# Altium footprint library LPC55S69_MINI [B].PcbLib: 22 footprints (part 1 of 2)
Each footprint in its own frame and in the unit in brackets; x right, y up, seen from the top. Pads: shape width x height; smd on the part's side, far side on the other; paste and mask are expansions set on the pad; w line width, h text height; cw(c..) or ccw(c..) is an arc to the next point about the centre after c.
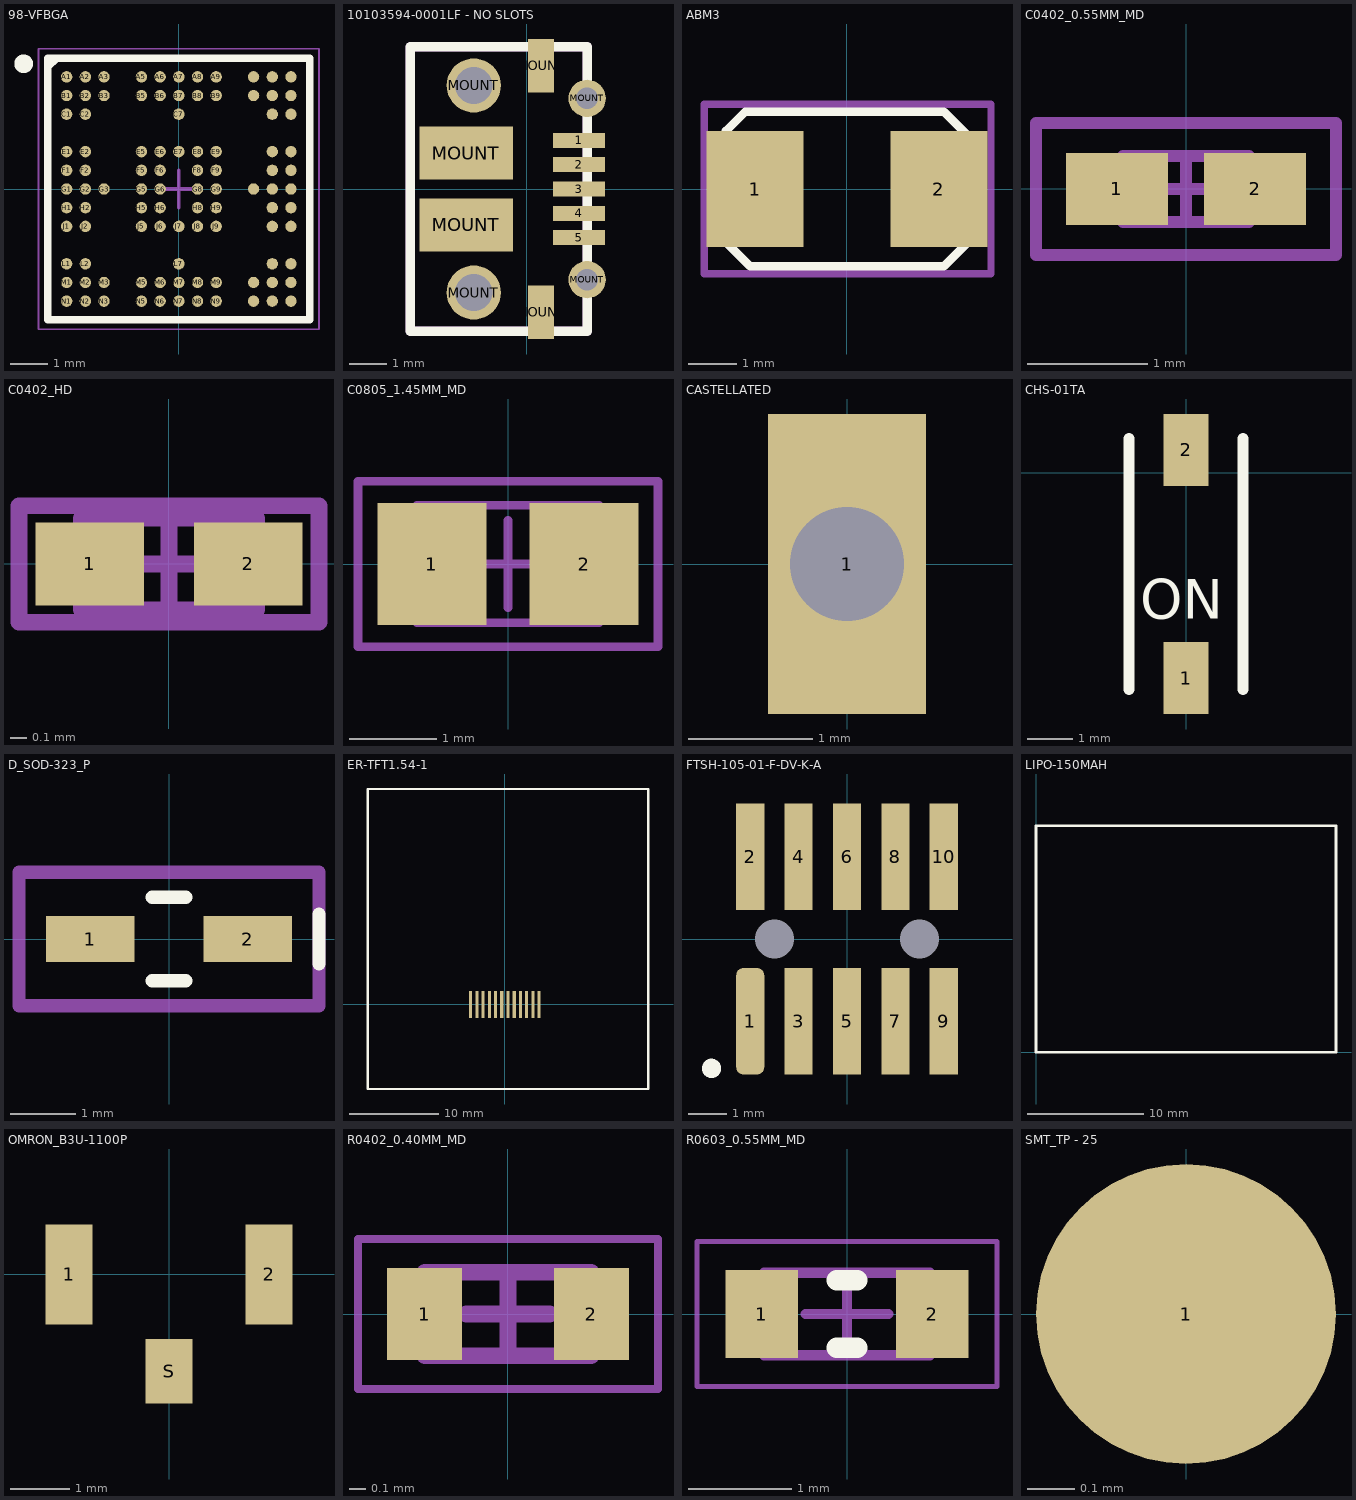
[diagram p0: the footprints below, top view; thin cyan lines are the x and y axes]

## 98-VFBGA [mil] "BGA, 98-Leads, Body 7.00x7.00mmx0.97mm, Pitch 0.50mm"
height 38.19
pads (98):
  round 12 smd paste+0 mask+1: A1(-118.11,118.11) A2(-98.43,118.11) A3(-78.74,118.11) A5(-39.37,118.11) A6(-19.68,118.11) A7(0,118.11) A8(19.69,118.11) A9(39.37,118.11) A11(78.74,118.11) A12(98.43,118.11) A13(118.11,118.11) B1(-118.11,98.43) B2(-98.43,98.43) B3(-78.74,98.43) B5(-39.37,98.43) B6(-19.68,98.43) B7(0,98.43) B8(19.69,98.43) B9(39.37,98.43) B11(78.74,98.43) B12(98.43,98.43) B13(118.11,98.43) C1(-118.11,78.74) C2(-98.43,78.74) C7(0,78.74) C12(98.43,78.74) C13(118.11,78.74) E1(-118.11,39.37) E2(-98.43,39.37) E5(-39.37,39.37) E6(-19.68,39.37) E7(0,39.37) E8(19.69,39.37) E9(39.37,39.37) E12(98.43,39.37) E13(118.11,39.37) F1(-118.11,19.68) F2(-98.43,19.68) F5(-39.37,19.68) F6(-19.68,19.68) F8(19.69,19.68) F9(39.37,19.68) F12(98.43,19.68) F13(118.11,19.68) G1(-118.11,0) G2(-98.43,0) G3(-78.74,0) G5(-39.37,0) G6(-19.68,0) G8(19.69,0) G9(39.37,0) G11(78.74,0) G12(98.43,0) G13(118.11,0) H1(-118.11,-19.69) H2(-98.43,-19.69) H5(-39.37,-19.69) H6(-19.68,-19.69) H8(19.69,-19.69) H9(39.37,-19.69) H12(98.43,-19.69) H13(118.11,-19.69) J1(-118.11,-39.37) J2(-98.43,-39.37) J5(-39.37,-39.37) J6(-19.68,-39.37) J7(0,-39.37) J8(19.69,-39.37) J9(39.37,-39.37) J12(98.43,-39.37) J13(118.11,-39.37) L1(-118.11,-78.74) L2(-98.43,-78.74) L7(0,-78.74) L12(98.43,-78.74) L13(118.11,-78.74) M1(-118.11,-98.43) M2(-98.43,-98.43) M3(-78.74,-98.43) M5(-39.37,-98.43) M6(-19.68,-98.43) M7(0,-98.43) M8(19.69,-98.43) M9(39.37,-98.43) M11(78.74,-98.43) M12(98.43,-98.43) M13(118.11,-98.43) N1(-118.11,-118.11) N2(-98.43,-118.11) N3(-78.74,-118.11) N5(-39.37,-118.11) N6(-19.68,-118.11) N7(0,-118.11) N8(19.69,-118.11) N9(39.37,-118.11) N11(78.74,-118.11) N12(98.43,-118.11) N13(118.11,-118.11)
Top Overlay:
  circle w9.84: c-163.39,131.89 r4.92
  region: -128.77,137.8 -137.8,128.77 -137.8,137.8
  lines w7.87: -137.8,128.77 -128.77,137.8 ; -137.8,-137.8 -137.8,137.8 137.8,137.8 137.8,-137.8 -137.8,-137.8
Top Courtyard:
  lines w1.97: -147.64,-147.64 -147.64,147.64 147.64,147.64 147.64,-147.64 -147.64,-147.64
  lines w3.94: -19.68,0 19.69,0 ; 0,-19.69 0,19.68
Top Assembly:
  lines w3.94: -137.8,-137.8 -137.8,137.8 137.8,137.8 137.8,-137.8 -137.8,-137.8
3D body "BGA81C50P13X13_700X700X97.step": height 38.19, standoff 0, extent -137.8,-137.8 137.8,137.8

## 10103594-0001LF - NO SLOTS [mm] "USB uB"
pads (13):
  rect 1.4x0.4 smd: 1(1.4,1.3) 2(1.4,0.65) 3(1.4,0) 4(1.4,-0.65) 5(1.4,-1.3)
  rect 2.5x1.425 smd: MOUNT(-1.615,-0.962) MOUNT(-1.615,0.962)
  round 1.45 hole 1: MOUNT(-1.415,-2.77) MOUNT(-1.415,2.77)
  rect 0.7x1.425 smd: MOUNT(0.385,-3.3) MOUNT(0.385,3.3)
  round 1 hole 0.58: MOUNT(1.615,-2.425) MOUNT(1.615,2.425)
Top Overlay:
  lines w0.254: -3.115,-3.8 1.615,-3.8 1.615,3.8 -3.115,3.8 -3.115,-3.8
Mechanical 15:
  lines w0.254: -3.115,-3.8 -3.115,3.8 1.615,3.8 1.615,-3.8 -3.115,-3.8
3D body "10103594.stp": height 2.9, standoff -0.7, extent -4.227,-4.011 1.806,4.029

## ABM3 [mm] "Abracon Crystal 5x3.2mm"
height 1.3
pads (2):
  rect 2x2.4 smd: 1(-1.9,0) 2(1.9,0)
Top Overlay:
  lines w0.178: -2.5,-1.1 -2.5,0.3 -2.5,1.2 -2.1,1.6 -2,1.6 2,1.6 2.5,1.1 2.5,-1.1 2,-1.6 -2,-1.6 -2.5,-1.1
Mechanical 13:
  lines w0.152: -2.95,-1.75 2.975,-1.75 2.975,1.75 -2.95,1.75 -2.95,-1.75
  text ".Designator" at -2.8,-1.6 h3
3D body: height 0.6, standoff 0, extent -2.5,-1.6 2.5,1.6
3D body: height 1.3, standoff 0.6, extent -2.1,-1.3 2.1,1.3

## C0402_0.55MM_MD [mm] "Capacitor - 0402 - Medium Density"
height 0.55
pads (2):
  rect 0.85x0.6 smd: 1(-0.575,0) 2(0.575,0)
Mechanical 13:
  lines w0.1: -0.525,-0.275 -0.525,0.275 0.525,0.275 0.525,-0.275 -0.525,-0.275
Mechanical 15:
  lines w0.1: -0.275,0 0.275,0 ; 0,-0.275 0,0.275 ; -1.25,-0.55 -1.25,0.55 1.25,0.55 1.25,-0.55 -1.25,-0.55
3D body "0402_0.55mm.STEP": height 0.55, standoff 0, extent -0.5,-0.25 0.5,0.25

## C0402_HD [mm] "Capacitor 0402 - High Density"
height 0.3
pads (2):
  rect 0.65x0.5 smd: 1(-0.475,0) 2(0.475,0)
Mechanical 13:
  lines w0.1: -0.525,-0.275 0.525,-0.275 0.525,0.275 -0.525,0.275 -0.525,-0.275
Mechanical 15:
  lines w0.1: -0.275,0 0.275,0 ; 0,-0.275 0,0.275 ; -0.9,-0.35 0.9,-0.35 0.9,0.35 -0.9,0.35 -0.9,-0.35
3D body "CAPC1005X55N EIA 0402.step": height 0.55, standoff 0, extent -0.5,-0.25 0.5,0.25

## C0805_1.45MM_MD [mm] "Capacitor - 0805 - Medium Density"
height 1.45
pads (2):
  rect 1.25x1.4 smd: 1(-0.875,0) 2(0.875,0)
Mechanical 13:
  lines w0.1: -1.05,-0.675 1.05,-0.675 1.05,0.675 -1.05,0.675 -1.05,-0.675
Mechanical 15:
  lines w0.1: -0.5,0 0.5,0 ; 0,-0.5 0,0.5 ; -1.725,-0.95 1.725,-0.95 1.725,0.95 -1.725,0.95 -1.725,-0.95
3D body "0805_1.45mm.STEP": height 1.45, standoff 0, extent -1,-0.625 1,0.625

## CASTELLATED [mil]
pads (1):
  rect 50x95 hole 36: 1(0,0)

## CHS-01TA [mm]
height 1.6
pads (2):
  rect 1x1.6 smd: 1(0,-4.572) 2(0,0.508)
Top Overlay:
  lines w0.254: -1.27,-4.826 -1.27,0.762 ; 1.27,-4.826 1.27,0.762
  text "ON" at -1.016,-3.538 h1.5
3D body "CHS-01TA.stp": height 2.53, standoff 0.01, extent -1.25,-4.832 1.25,0.768

## D_SOD-323_P [mm] "SOD-123 Diode - Polarized"
height 1.35
pads (2):
  rect 1.35x0.7 smd: 1(-1.2,0) 2(1.2,0)
Top Overlay:
  lines w0.203: -0.254,-0.635 0.254,-0.635 ; -0.254,0.635 0.254,0.635 ; 2.286,-0.381 2.286,0.381
Mechanical 15:
  lines w0.203: -2.286,-1.016 -0.084,-1.016 2.286,-1.016 2.286,1.016 -2.286,1.016 -2.286,-1.016
3D body "SOD-323.step": height 1.1, standoff 0, extent -1.3,-0.675 1.3,0.675

## ER-TFT1.54-1 [mm]
pads (12):
  rect 0.35x3 smd: 1(3.85,0) 2(3.15,0) 3(2.45,0) 4(1.75,0) 5(1.05,0) 6(0.35,0) 7(-0.35,0) 8(-1.05,0) 9(-1.75,0) 10(-2.45,0) 11(-3.15,0) 12(-3.85,0)
Top Overlay:
  lines w0.254: -15.41,-9.5 16.11,-9.5 16.11,24.22 -15.41,24.22 -15.41,-9.5
3D body: height 2.1, standoff 0.15, extent -15.537,-9.627 16.237,24.347

## FTSH-105-01-F-DV-K-A [mil] "Samtec FTSH-105-01-F-DV-K-A SMT Connector"
height 235.04
pads (12):
  rrect50% 29x110 smd: 1(-100,-85)
  rect 29x110 smd: 2(-100,85) 3(-50,-85) 4(-50,85) 5(0,-85) 6(0,85) 7(50,-85) 8(50,85) 9(100,-85) 10(100,85)
  round 5 hole 40 unplated mask+20: A(-75,0) A(75,0)
Top Overlay:
  circle w10: c-140,-133.64 r5
3D body "FTSH-105-01-X-DV-K-A.step": height 241, standoff -34, extent -125,-115.01 125,114.99

## LIPO-150MAH [mm]
height 1.6
Top Overlay:
  lines w0.254: 0,0 25.908,0 25.908,19.558 0,19.558 0,0
3D body: height 3.56, standoff 0, extent 0.001,0.001 25.907,19.557

## OMRON_B3U-1100P [mm] "Omron Ultra-small tactile switch B3U 3.0 x 2.5 x 1.2mm"
height 1.2
pads (3):
  rect 0.8x1.7 smd: 1(-1.7,0) 2(1.7,0)
  rect 0.8x1.1 smd: S(0,-1.65)
3D body "B3U_1100P.step": height 1.61, standoff 0.01, extent -2,-1.9 2,1.25

## R0402_0.40MM_MD [mm] "Resistor 0402 Medium Density"
height 0.4
pads (2):
  rect 0.45x0.55 smd: 1(-0.5,0) 2(0.5,0)
Mechanical 13:
  lines w0.1: -0.5,-0.25 -0.5,0.25 0.5,0.25 0.5,-0.25 -0.5,-0.25
Mechanical 15:
  lines w0.05: -0.9,-0.45 -0.9,0.45 0.9,0.45 0.9,-0.45 -0.9,-0.45
  lines w0.1: -0.25,0 0.25,0 ; 0,-0.25 0,0.25
3D body "RESC1005X04N.step": height 0.4, standoff 0, extent -0.5,-0.25 0.5,0.25

## R0603_0.55MM_MD [mm] "Resistor 0603 Medium Density"
height 0.55
pads (2):
  rect 0.7x0.85 smd: 1(-0.825,0) 2(0.825,0)
Top Overlay:
  lines w0.2: -0.1,-0.325 0.1,-0.325 ; -0.1,0.325 0.1,0.325
Mechanical 13:
  lines w0.1: -0.8,-0.4 -0.8,0.4 0.8,0.4 0.8,-0.4 -0.8,-0.4
Mechanical 15:
  lines w0.05: -1.45,-0.7 -1.45,0.7 1.45,0.7 1.45,-0.7 -1.45,-0.7
  lines w0.1: -0.4,0 0.4,0 ; 0,-0.4 0,0.4
3D body "RESC1608X06N.step": height 0.55, standoff 0, extent -0.8,-0.4 0.8,0.4

## SMT_TP - 25 [mm] ".025\" SMT Test pad"
height 1.6
pads (1):
  round 0.635 smd paste-0.635: 1(0,0)